# Altium footprint library CAPPC3528X210N.PcbLib: 1 footprints
Each footprint in its own frame and in the unit in brackets; x right, y up, seen from the top. Pads: shape width x height; smd on the part's side, far side on the other; paste and mask are expansions set on the pad; w line width, h text height; cw(c..) or ccw(c..) is an arc to the next point about the centre after c.
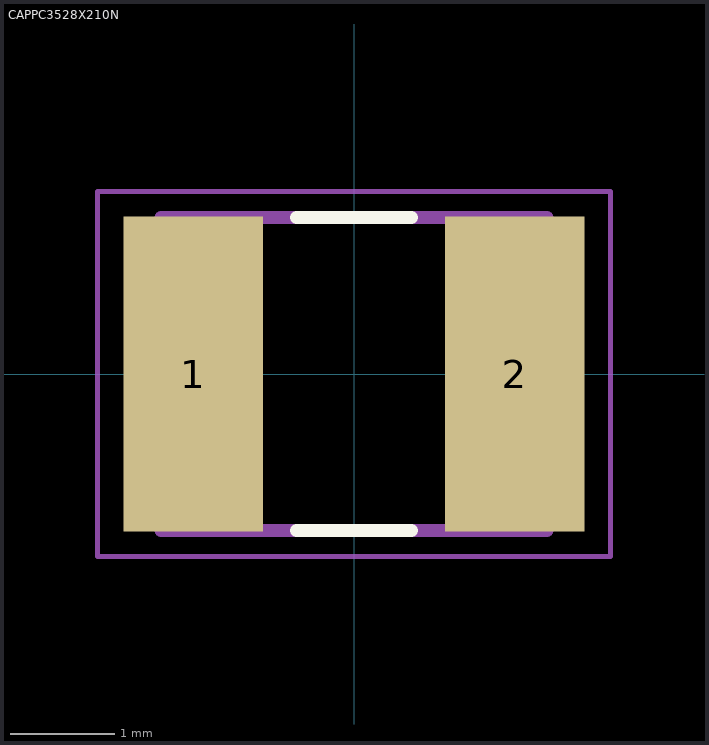
[diagram p0: the footprint, top view; thin cyan lines are the x and y axes]

## CAPPC3528X210N [mm]
pads (2):
  rect 1.34x3.02 smd: 1(-1.54,0) 2(1.54,0)
Top Overlay:
  lines w0.127: -0.55,-1.5 0.55,-1.5 ; -0.55,1.5 0.55,1.5
Mechanical 13:
  lines w0.127: -1.85,-1.5 1.85,-1.5 1.85,1.5 -1.85,1.5 -1.85,-1.5
Mechanical 15:
  lines w0.05: -2.458,-1.75 2.458,-1.75 2.458,1.75 -2.458,1.75 -2.458,-1.75